# Altium footprint library ProtoStack_H750VBT.PcbLib: 87 footprints (part 6 of 6)
Each footprint in its own frame and in the unit in brackets; x right, y up, seen from the top. Pads: shape width x height; smd on the part's side, far side on the other; paste and mask are expansions set on the pad; w line width, h text height; cw(c..) or ccw(c..) is an arc to the next point about the centre after c.
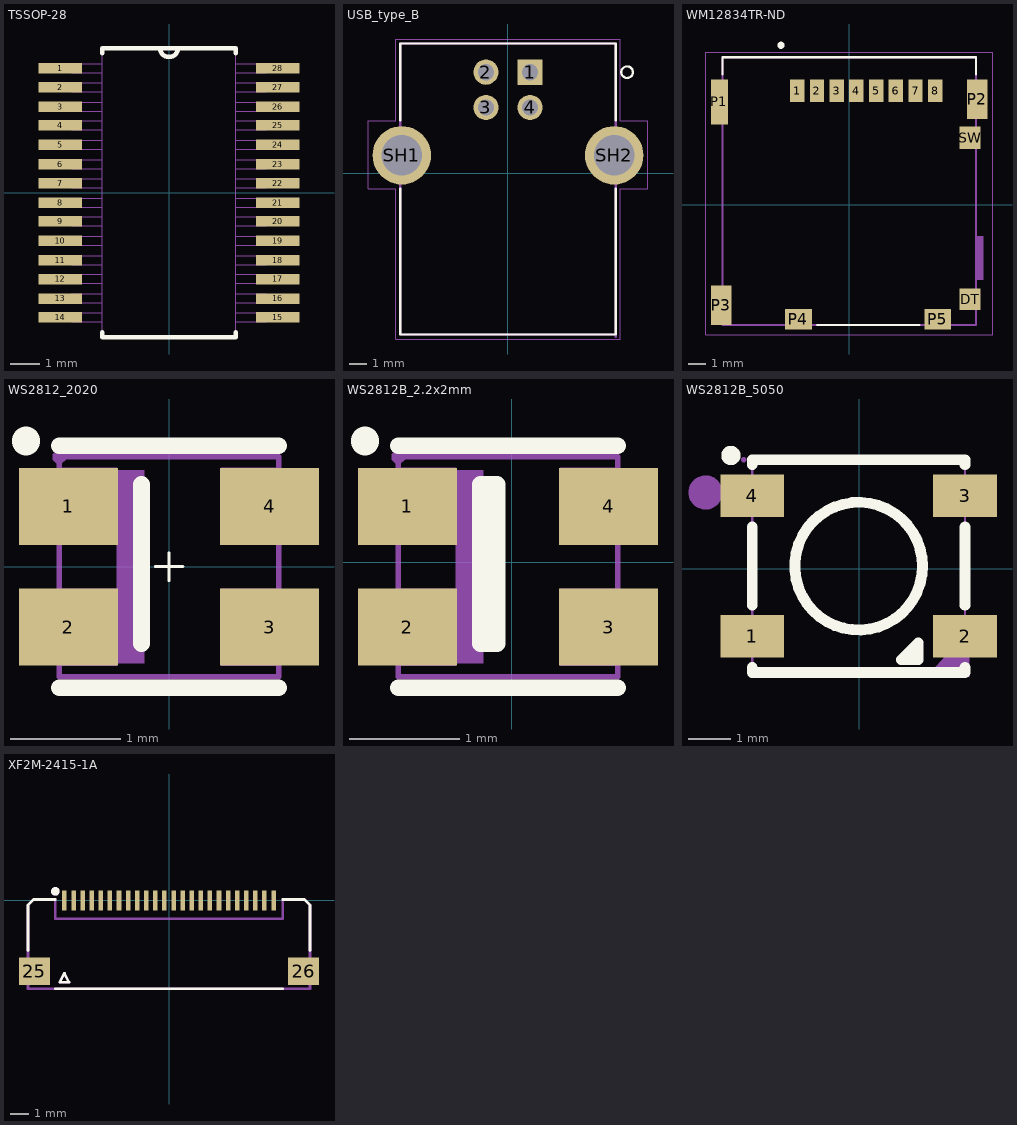
[diagram p5: the footprints below, top view; thin cyan lines are the x and y axes]

## TSSOP-28 [mil]
pads (28):
  rect 58x14 smd mask+2.36: 1(-145,166) 2(-145,141) 3(-145,115) 4(-145,90) 5(-145,64) 6(-145,38) 7(-145,13) 8(-145,-13) 9(-145,-38) 10(-145,-64) 11(-145,-90) 12(-145,-115) 13(-145,-141) 14(-145,-166) 15(145,-166) 16(145,-141) 17(145,-115) 18(145,-90) 19(145,-64) 20(145,-38) 21(145,-13) 22(145,13) 23(145,38) 24(145,64) 25(145,90) 26(145,115) 27(145,141) 28(145,166)
Top Overlay:
  lines w6: -89,-186 -89,-193 89,-193 89,-186 ; -89,186 -89,193 -12,193 ; 89,186 89,193 12,193 ; -12,193 ccw(c0,193) 12,193 ; -12,193 12,193
Mechanical 1:
  lines w0: -12,193 ccw(c0,193) 12,193 ; -12,193 12,193 ; -12,193 -89,193 -89,-193 89,-193 89,193 12,193 ; -130,-172 -130,-160 -89,-160 -89,-172 -130,-172 ; -130,-147 -130,-135 -89,-135 -89,-147 -130,-147 ; -130,-121 -130,-109 -89,-109 -89,-121 -130,-121 ; -130,-96 -130,-84 -89,-84 -89,-96 -130,-96 ; -130,-70 -130,-58 -89,-58 -89,-70 -130,-70 ; -130,-44 -130,-32 -89,-32 -89,-44 -130,-44 ; -130,-19 -130,-7 -89,-7 -89,-19 -130,-19 ; -130,7 -130,19 -89,19 -89,7 -130,7 ; -130,32 -130,44 -89,44 -89,32 -130,32 ; -130,58 -130,70 -89,70 -89,58 -130,58 ; -130,84 -130,96 -89,96 -89,84 -130,84 ; -130,109 -130,121 -89,121 -89,109 -130,109 ; -130,135 -130,147 -89,147 -89,135 -130,135 ; -130,160 -130,172 -89,172 -89,160 -130,160 ; 89,-172 89,-160 130,-160 130,-172 89,-172 ; 89,-147 89,-135 130,-135 130,-147 89,-147 ; 89,-121 89,-109 130,-109 130,-121 89,-121 ; 89,-96 89,-84 130,-84 130,-96 89,-96 ; 89,-70 89,-58 130,-58 130,-70 89,-70 ; 89,-44 89,-32 130,-32 130,-44 89,-44 ; 89,-19 89,-7 130,-7 130,-19 89,-19 ; 89,7 89,19 130,19 130,7 89,7 ; 89,32 89,44 130,44 130,32 89,32 ; 89,58 89,70 130,70 130,58 89,58 ; 89,84 89,96 130,96 130,84 89,84 ; 89,109 89,121 130,121 130,109 89,109 ; 89,135 89,147 130,147 130,135 89,135 ; 89,160 89,172 130,172 130,160 89,160
3D body "TSSOP-28.stp": height 43.67, standoff 0.39, extent -126.57,-177.16 126.6,177.17

## USB_type_B [mm]
pads (6):
  rect 1.428x1.428 hole 0.92: 1(1.27,5.715)
  round 1.428 hole 0.92: 2(-1.23,5.715) 3(-1.23,3.715) 4(1.27,3.715)
  round 3.316 hole 2.3: SH1(-6,1.005) SH2(6.04,1.005)
Top Overlay:
  circle w0.127: c6.77,5.715 r0.329
  lines w0.127: -6.08,-0.895 -6.08,-9.155 6.12,-9.155 6.12,-0.895 ; -6.08,2.975 -6.08,7.345 6.12,7.345 6.12,2.975
Mechanical 1:
  circle w0.4: c1.27,5.715 r0.2
  lines w0.127: 6.12,-9.275 6.12,-9.155 ; 6.12,-9.155 -6.08,-9.155 -6.08,7.345 6.12,7.345 6.12,-9.155
Mechanical 4:
  lines w0.05: -7.9,-0.895 -7.9,2.975 -6.33,2.975 -6.33,7.595 6.37,7.595 6.37,2.975 7.94,2.975 7.94,-0.905 6.37,-0.905 6.37,-9.405 -6.33,-9.405 -6.33,-0.895 -7.9,-0.895
3D body "WURTH_61400416121.STEP": height 10.9, standoff -3.32, extent -7.475,-9.291 7.475,7.209

## WM12834TR-ND [mm]
pads (15):
  rect 0.8x1.24 smd: 1(-2.9,6.355) 2(-1.8,6.355) 3(-0.7,6.355) 4(0.4,6.355) 5(1.5,6.355) 6(2.6,6.355) 7(3.7,6.355) 8(4.8,6.355)
  rect 1.16x1.2 smd: DT(6.74,-5.275)
  rect 0.95x2.5 smd: P1(-7.245,5.725)
  rect 1.15x2.2 smd: P2(7.145,5.875) P3(-7.145,-5.605)
  rect 1.5x1.15 smd: P4(-2.84,-6.4) P5(4.94,-6.4)
  rect 1.16x1.25 smd: SW(6.74,3.725)
Top Overlay:
  circle w0.2: c-3.81,8.89 r0.1
  lines w0.127: -7.07,7.28 -7.07,8.225 7.07,8.225 7.07,7.28 ; -1.8,-6.725 3.9,-6.725
Mechanical 4:
  lines w0.127: -7.07,-6.725 7.07,-6.725 ; -7.07,-6.725 -7.07,8.225 ; -7.07,-6.725 7.07,-6.725 ; -7.07,-6.725 -7.07,8.225 ; -7.07,8.225 7.07,8.225 ; -7.07,8.225 7.07,8.225 ; 7.07,-6.725 7.07,8.225 ; 7.07,-6.725 7.07,8.225
Mechanical 16:
  region: 7.085,-1.775 7.47,-1.775 7.47,-4.184 7.085,-4.184
  lines w0.05: -8,-7.25 8,-7.25 8,8.5 -8,8.5 -8,-7.25
3D body "WM12834TR-ND.STEP": height 1.47, standoff 0.01, extent -7.419,-6.748 7.521,8.202

## WS2812_2020 [mm]
pads (4):
  rect 0.9x0.7 smd: 1(-0.915,0.55) 2(-0.915,-0.55) 3(0.915,-0.55) 4(0.915,0.55)
Top Overlay:
  lines w0.025: -0.126,0.003 0.128,0.003 ; 0,-0.127 0,0.127
  lines w0.152: -1,-1.1 1,-1.1 ; -1,1.1 1,1.1 ; -0.25,-0.7 -0.25,0.75
  lines w0.254: -1.3,1.138 -1.3,1.15
Mechanical 6:
  region: -0.82,-0.38 -0.58,-0.38 -0.58,-0.56 -0.79,-0.56 -0.79,-0.67 -0.58,-0.67 -0.58,-0.72 -0.82,-0.72 -0.83,-0.72 -0.83,-0.71 -0.83,-0.52 -0.61,-0.52 -0.61,-0.42 -0.83,-0.42 -0.83,-0.38
  region: -1.18,-0.665 -0.94,-0.665 -0.94,-0.715 -1.18,-0.715
  region: 0.655,0.455 0.655,0.695 0.705,0.695 0.705,0.455
  region: 0.56,0.6 0.8,0.6 0.8,0.55 0.56,0.55
  region: -0.225,0.88 -0.225,-0.88 -0.475,-0.88 -0.475,0.88
  region: 0.95,0.75 0.95,0.45 1.1,0.45 1.1,0.35 1.15,0.35 1.15,0.45 1.25,0.45 1.25,0.5 1.15,0.5 1.15,0.65 1.1,0.65 1.1,0.5 1,0.5 1,0.75
  region: -0.8,0.7 -0.85,0.65 -0.85,0.35 -0.8,0.3 -0.6,0.3 -0.55,0.35 -0.55,0.65 -0.6,0.7 -0.7,0.7 -0.7,0.65 -0.6,0.65 -0.6,0.35 -0.8,0.35 -0.8,0.65 -0.75,0.65 -0.75,0.7
  region: -1.175,0.7 -1.175,0.3 -1.025,0.3 -0.975,0.3 -0.925,0.35 -0.925,0.65 -0.975,0.7 -1.075,0.7 -1.075,0.65 -0.975,0.65 -0.975,0.35 -1.125,0.35 -1.125,0.7
  region: 0.55,-0.35 0.55,-0.75 0.7,-0.75 0.75,-0.75 0.8,-0.7 0.8,-0.4 0.75,-0.35 0.65,-0.35 0.65,-0.4 0.75,-0.4 0.75,-0.7 0.6,-0.7 0.6,-0.35
  region: 0.925,-0.75 0.925,-0.7 0.975,-0.7 0.975,-0.4 0.925,-0.4 0.925,-0.35 1.075,-0.35 1.075,-0.4 1.025,-0.4 1.025,-0.7 1.075,-0.7 1.075,-0.75
Mechanical 15:
  region: 0.475,0.2 0.475,0.9 1,0.9 1,0.2
  region: 0.475,-0.9 0.475,-0.2 1,-0.2 1,-0.9
  region: -1,-0.9 -1,-0.2 -0.475,-0.2 -0.475,-0.9
  region: -1,0.2 -1,0.9 -0.475,0.9 -0.475,0.2
  region: -0.94,1 -0.94,1.025 -0.975,1.059 -1.025,1.059 -1.06,1.025 -1.06,1 -1.06,0.975 -1.025,0.941 -0.975,0.941 -0.94,0.976
  lines w0.051: -1,-1 1,-1 1,1 -1,1 -1,-1
3D body "WS2812-2020.STEP": height 0.86, standoff 0, extent -1.093,-0.982 1.107,1.018

## WS2812B_2.2x2mm [mm]
pads (4):
  rect 0.9x0.7 smd: 1(-0.947,0.507) 2(-0.947,-0.593) 3(0.883,-0.593) 4(0.883,0.507)
Top Overlay:
  lines w0.152: -1.032,-1.143 0.968,-1.143 ; -1.032,1.057 0.968,1.057 ; -0.282,-0.743 -0.282,0.707 -0.132,0.707 -0.132,-0.693 -0.132,-0.743 -0.282,-0.743
  lines w0.254: -1.332,1.095 -1.332,1.107
Mechanical 6:
  region: 0.893,-0.793 0.893,-0.743 0.943,-0.743 0.943,-0.443 0.893,-0.443 0.893,-0.393 1.043,-0.393 1.043,-0.443 0.993,-0.443 0.993,-0.743 1.043,-0.743 1.043,-0.793
  region: 0.518,-0.393 0.518,-0.793 0.668,-0.793 0.718,-0.793 0.768,-0.743 0.768,-0.443 0.718,-0.393 0.618,-0.393 0.618,-0.443 0.718,-0.443 0.718,-0.743 0.568,-0.743 0.568,-0.393
  region: -1.207,0.657 -1.207,0.257 -1.057,0.257 -1.007,0.257 -0.957,0.307 -0.957,0.607 -1.007,0.657 -1.107,0.657 -1.107,0.607 -1.007,0.607 -1.007,0.307 -1.157,0.307 -1.157,0.657
  region: -0.832,0.657 -0.882,0.607 -0.882,0.307 -0.832,0.257 -0.632,0.257 -0.582,0.307 -0.582,0.607 -0.632,0.657 -0.732,0.657 -0.732,0.607 -0.632,0.607 -0.632,0.307 -0.832,0.307 -0.832,0.607 -0.782,0.607 -0.782,0.657
  region: 0.918,0.707 0.918,0.407 1.068,0.407 1.068,0.307 1.118,0.307 1.118,0.407 1.218,0.407 1.218,0.457 1.118,0.457 1.118,0.607 1.068,0.607 1.068,0.457 0.968,0.457 0.968,0.707
  region: -0.257,0.837 -0.257,-0.923 -0.507,-0.923 -0.507,0.837
  region: 0.528,0.557 0.768,0.557 0.768,0.507 0.528,0.507
  region: 0.623,0.412 0.623,0.652 0.673,0.652 0.673,0.412
  region: -1.212,-0.708 -0.972,-0.708 -0.972,-0.758 -1.212,-0.758
  region: -0.852,-0.423 -0.612,-0.423 -0.612,-0.603 -0.822,-0.603 -0.822,-0.713 -0.612,-0.713 -0.612,-0.763 -0.852,-0.763 -0.862,-0.763 -0.862,-0.753 -0.862,-0.563 -0.642,-0.563 -0.642,-0.463 -0.862,-0.463 -0.862,-0.423
Mechanical 15:
  region: -1.032,0.157 -1.032,0.857 -0.507,0.857 -0.507,0.157
  region: -1.032,-0.943 -1.032,-0.243 -0.507,-0.243 -0.507,-0.943
  region: 0.443,-0.943 0.443,-0.243 0.968,-0.243 0.968,-0.943
  region: 0.443,0.157 0.443,0.857 0.968,0.857 0.968,0.157
  region: -0.972,0.957 -0.972,0.982 -1.007,1.016 -1.057,1.016 -1.092,0.982 -1.092,0.957 -1.092,0.932 -1.057,0.898 -1.007,0.898 -0.972,0.933
  lines w0.051: -1.032,-1.043 -1.032,0.957 0.968,0.957 0.968,-1.043 -1.032,-1.043
3D body "WS2812-2020.STEP": height 0.86, standoff 0, extent -1.125,-1.025 1.075,0.975

## WS2812B_5050 [mm]
pads (4):
  rect 1.5x1 smd: 1(-2.513,-1.59) 2(2.487,-1.59) 3(2.487,1.71) 4(-2.513,1.71)
Top Overlay:
  circle w0.254: c-3.013,2.66 r0.1
  circle w0.254: c-0.014,0.06 r1.5
  lines w0.254: -2.514,-2.32 -2.514,-2.44 2.486,-2.44 2.486,-2.32 ; -2.514,-0.86 -2.514,0.98 ; -2.514,2.44 -2.514,2.56 2.486,2.56 2.486,2.44 ; 2.486,-0.86 2.486,0.98 ; 0.986,-2.14 1.386,-1.74 1.386,-2.14 0.986,-2.14
Mechanical 6:
  circle w0.4: c-3.61,1.79 r0.2
  region: 2.587,-1.44 2.587,-2.54 1.587,-2.54
Mechanical 15:
  region: -1.813,1.26 -2.713,1.26 -2.713,2.16 -1.813,2.16
  region: -1.813,-2.04 -2.713,-2.04 -2.713,-1.14 -1.813,-1.14
  region: 2.687,-2.04 1.787,-2.04 1.787,-1.14 2.687,-1.14
  region: 2.687,1.26 1.787,1.26 1.787,2.16 2.687,2.16
  region: -2.653,2.56 -2.654,2.584 -2.689,2.619 -2.738,2.619 -2.773,2.585 -2.773,2.56 -2.773,2.536 -2.738,2.501 -2.689,2.501 -2.654,2.536
  lines w0.051: -2.513,-2.44 -2.513,2.56 2.487,2.56 2.487,-2.44 -2.513,-2.44
3D body "WS2812_RGB_LED_updated.stp": height 1.5, standoff -0.2, extent -2.675,-2.399 2.675,2.551

## XF2M-2415-1A [mm]
pads (26):
  rect 0.25x1.1 smd: 1(-5.75,0) 2(-5.25,0) 3(-4.75,0) 4(-4.25,0) 5(-3.75,0) 6(-3.25,0) 7(-2.75,0) 8(-2.25,0) 9(-1.75,0) 10(-1.25,0) 11(-0.75,0) 12(-0.25,0) 13(0.25,0) 14(0.75,0) 15(1.25,0) 16(1.75,0) 17(2.25,0) 18(2.75,0) 19(3.25,0) 20(3.75,0) 21(4.25,0) 22(4.75,0) 23(5.25,0) 24(5.75,0)
  rect 1.7x1.5 smd: 25(-7.4,-3.9) 26(7.4,-3.9)
Top Overlay:
  circle w0.25: c-6.25,0.5 r0.112
  lines w0.15: -7.75,-2.75 -7.75,-0.25 -7.45,0.05 -6.25,0.05 ; -6.25,-4.85 6.25,-4.85 ; 6.25,0.05 7.45,0.05 7.75,-0.25 7.75,-2.75 ; -6,-4.5 -5.75,-4 -5.5,-4.5 -6,-4.5
Mechanical 13:
  circle w0.25: c-6.25,0.5 r0.112
  lines w0.15: -7.75,-4.85 -7.75,-0.25 -7.45,0.05 -6.25,0.05 -6.25,-1 6.25,-1 6.25,0.05 7.45,0.05 7.75,-0.25 7.75,-4.85 -7.75,-4.85 ; -6,-4.5 -5.75,-4 -5.5,-4.5 -6,-4.5
3D body "xf2m-2415-1a.stp": height 2, standoff 0, extent -8.05,-5 8.05,0.9